# Altium integrated library WE-CBF SMD EMI Suppression Ferrite Bead.IntLib: 159 symbols (part 2 of 2)
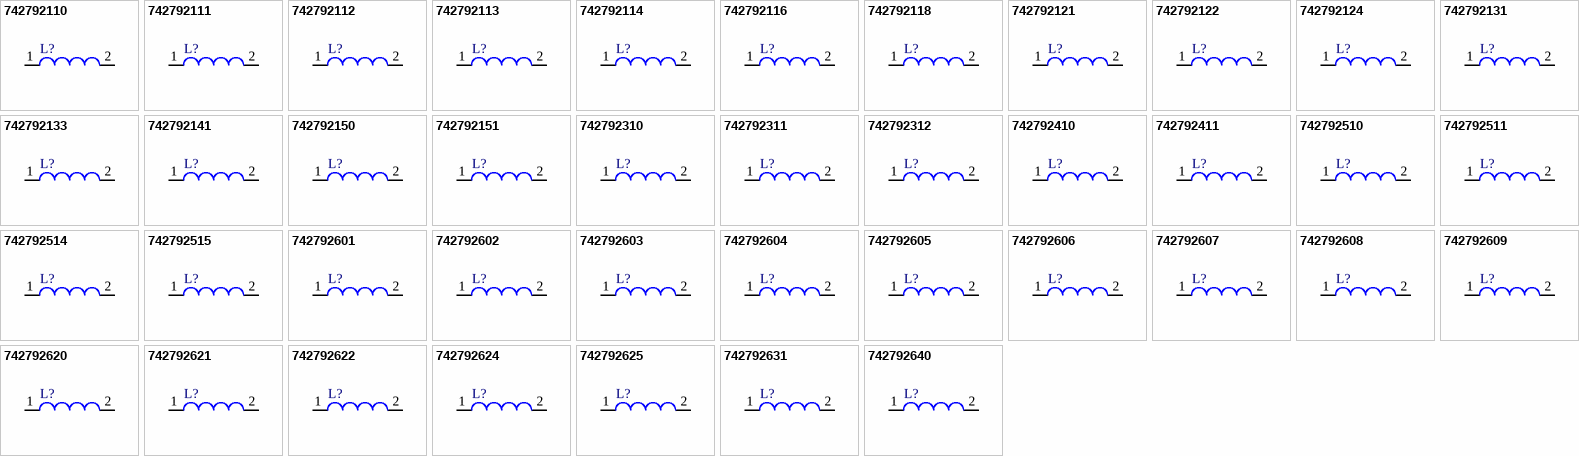
[diagram p4: symbols 742792110 to 742792640]

## 742792310
designator L?
SMD EMI Suppression Ferrite Bead WE-CBF, Z = 30 Ohm; PartNumber: 742792310; Impedance: 30 Ohm; DatasheetVersion: Nov-2007; PackageReference: SMD-1210; PackageDescription: Chip Inductor, 2-Leads, Body 3.2 x 2.5 mm; ComponentLink1Description: Manufacturer URL; ComponentLink1URL: http://www.we-online.com; ComponentLink2Description: Datasheet; ComponentLink2URL: http://www.we-online.de/katalog/media/pdf/742792310.pdf
footprint SMD-1210 (Chip Inductor, 2-Leads, Body 3.2x2.5x1.5 mm)
pins: 1, 2

## 742792311
designator L?
SMD EMI Suppression Ferrite Bead WE-CBF, Z = 52 Ohm; PartNumber: 742792311; Impedance: 52 Ohm; DatasheetVersion: Nov-2007; PackageReference: SMD-1210; PackageDescription: Chip Inductor, 2-Leads, Body 3.2 x 2.5 mm; ComponentLink1Description: Manufacturer URL; ComponentLink1URL: http://www.we-online.com; ComponentLink2Description: Datasheet; ComponentLink2URL: http://www.we-online.de/katalog/media/pdf/742792311.pdf
footprint SMD-1210 (Chip Inductor, 2-Leads, Body 3.2x2.5x1.5 mm)
pins: 1, 2

## 742792312
designator L?
SMD EMI Suppression Ferrite Bead WE-CBF, Z = 65 Ohm; PartNumber: 742792312; Impedance: 65 Ohm; DatasheetVersion: Nov-2007; PackageReference: SMD-1210; PackageDescription: Chip Inductor, 2-Leads, Body 3.2 x 2.5 mm; ComponentLink1Description: Manufacturer URL; ComponentLink1URL: http://www.we-online.com; ComponentLink2Description: Datasheet; ComponentLink2URL: http://www.we-online.de/katalog/media/pdf/742792312.pdf
footprint SMD-1210 (Chip Inductor, 2-Leads, Body 3.2x2.5x1.5 mm)
pins: 1, 2

## 742792410
designator L?
SMD EMI Suppression Ferrite Bead WE-CBF, Z = 60 Ohm; PartNumber: 742792410; Impedance: 60 Ohm; DatasheetVersion: Dec-2005; PackageReference: SMD-1806; PackageDescription: Chip Inductor, 2-Leads, Body 4.5 x 1.6 mm; ComponentLink1Description: Manufacturer URL; ComponentLink1URL: http://www.we-online.com; ComponentLink2Description: Datasheet; ComponentLink2URL: http://www.we-online.de/katalog/media/pdf/742792410.pdf
footprint SMD-1806 (Chip Inductor, 2-Leads, Body 4.5x1.6x1.8 mm)
pins: 1, 2

## 742792411
designator L?
SMD EMI Suppression Ferrite Bead WE-CBF, Z = 80 Ohm; PartNumber: 742792411; Impedance: 80 Ohm; DatasheetVersion: Dec-2005; PackageReference: SMD-1806; PackageDescription: Chip Inductor, 2-Leads, Body 4.5 x 1.6 mm; ComponentLink1Description: Manufacturer URL; ComponentLink1URL: http://www.we-online.com; ComponentLink2Description: Datasheet; ComponentLink2URL: http://www.we-online.de/katalog/media/pdf/742792411.pdf
footprint SMD-1806 (Chip Inductor, 2-Leads, Body 4.5x1.6x1.8 mm)
pins: 1, 2

## 742792510
designator L?
SMD EMI Suppression Ferrite Bead WE-CBF, Z = 70 Ohm; PartNumber: 742792510; Impedance: 70 Ohm; DatasheetVersion: Dec-2005; PackageReference: SMD-1812; PackageDescription: Chip Inductor, 2-Leads, Body 4.5 x 3.2 mm; ComponentLink1Description: Manufacturer URL; ComponentLink1URL: http://www.we-online.com; ComponentLink2Description: Datasheet; ComponentLink2URL: http://www.we-online.de/katalog/media/pdf/742792510.pdf
footprint SMD-1812 (Chip Inductor, 2-Leads, Body 4.5x3.2x1.7 mm)
pins: 1, 2

## 742792511
designator L?
SMD EMI Suppression Ferrite Bead WE-CBF, Z = 120 Ohm; PartNumber: 742792511; Impedance: 120 Ohm; DatasheetVersion: Dec-2005; PackageReference: SMD-1812; PackageDescription: Chip Inductor, 2-Leads, Body 4.5 x 3.2 mm; ComponentLink1Description: Manufacturer URL; ComponentLink1URL: http://www.we-online.com; ComponentLink2Description: Datasheet; ComponentLink2URL: http://www.we-online.de/katalog/media/pdf/742792511.pdf
footprint SMD-1812 (Chip Inductor, 2-Leads, Body 4.5x3.2x1.7 mm)
pins: 1, 2

## 742792514
designator L?
SMD EMI Suppression Ferrite Bead WE-CBF, Z = 600 Ohm; PartNumber: 742792514; Impedance: 600 Ohm; DatasheetVersion: Feb-2007; PackageReference: SMD-1812; PackageDescription: Chip Inductor, 2-Leads, Body 4.5 x 3.2 mm; ComponentLink1Description: Manufacturer URL; ComponentLink1URL: http://www.we-online.com; ComponentLink2Description: Datasheet; ComponentLink2URL: http://www.we-online.de/katalog/media/pdf/742792514.pdf
footprint SMD-1812 (Chip Inductor, 2-Leads, Body 4.5x3.2x1.7 mm)
pins: 1, 2

## 742792515
designator L?
SMD EMI Suppression Ferrite Bead WE-CBF, Z = 530 Ohm; PartNumber: 742792515; Impedance: 530 Ohm; DatasheetVersion: ver 5, Jan-2010; PackageReference: SMD-1812; PackageDescription: Chip Inductor, 2-Leads, Body 4.5 x 3.2 mm; ComponentLink1Description: Manufacturer URL; ComponentLink1URL: http://www.we-online.com; ComponentLink2Description: Datasheet; ComponentLink2URL: http://www.we-online.de/katalog/media/pdf/742792515.pdf
footprint SMD-1812 (Chip Inductor, 2-Leads, Body 4.5x3.2x1.7 mm)
pins: 1, 2

## 742792601
designator L?
SMD EMI Suppression Ferrite Bead WE-CBF, Z = 30 Ohm; PartNumber: 742792601; Impedance: 30 Ohm; DatasheetVersion: Dec-2005; PackageReference: SMD-0603; PackageDescription: Chip Inductor, 2-Leads, Body 1.6 x 0.8 mm; ComponentLink1Description: Manufacturer URL; ComponentLink1URL: http://www.we-online.com; ComponentLink2Description: Datasheet; ComponentLink2URL: http://www.we-online.de/katalog/media/pdf/742792601.pdf
footprint SMD-0603 (Chip Inductor, 2-Leads, Body 1.6x0.8x0.95 mm)
pins: 1, 2

## 742792602
designator L?
SMD EMI Suppression Ferrite Bead WE-CBF, Z = 60 Ohm; PartNumber: 742792602; Impedance: 60 Ohm; DatasheetVersion: Dec-2005; PackageReference: SMD-0603; PackageDescription: Chip Inductor, 2-Leads, Body 1.6 x 0.8 mm; ComponentLink1Description: Manufacturer URL; ComponentLink1URL: http://www.we-online.com; ComponentLink2Description: Datasheet; ComponentLink2URL: http://www.we-online.de/katalog/media/pdf/742792602.pdf
footprint SMD-0603 (Chip Inductor, 2-Leads, Body 1.6x0.8x0.95 mm)
pins: 1, 2

## 742792603
designator L?
SMD EMI Suppression Ferrite Bead WE-CBF, Z = 28 Ohm; PartNumber: 742792603; Impedance: 28 Ohm; DatasheetVersion: Dec-2005; PackageReference: SMD-0603; PackageDescription: Chip Inductor, 2-Leads, Body 1.6 x 0.8 mm; ComponentLink1Description: Manufacturer URL; ComponentLink1URL: http://www.we-online.com; ComponentLink2Description: Datasheet; ComponentLink2URL: http://www.we-online.de/katalog/media/pdf/742792603.pdf
footprint SMD-0603 (Chip Inductor, 2-Leads, Body 1.6x0.8x0.95 mm)
pins: 1, 2

## 742792604
designator L?
SMD EMI Suppression Ferrite Bead WE-CBF, Z = 22 Ohm; PartNumber: 742792604; Impedance: 22 Ohm; DatasheetVersion: ver 5, Feb-2007; PackageReference: SMD-0603; PackageDescription: Chip Inductor, 2-Leads, Body 1.6 x 0.8 mm; ComponentLink1Description: Manufacturer URL; ComponentLink1URL: http://www.we-online.com; ComponentLink2Description: Datasheet; ComponentLink2URL: http://www.we-online.de/katalog/media/pdf/742792604.pdf
footprint SMD-0603 (Chip Inductor, 2-Leads, Body 1.6x0.8x0.95 mm)
pins: 1, 2

## 742792605
designator L?
SMD EMI Suppression Ferrite Bead WE-CBF, Z = 33 Ohm; PartNumber: 742792605; Impedance: 15 Ohm; DatasheetVersion: Dec-2005; PackageReference: SMD-0603; PackageDescription: Chip Inductor, 2-Leads, Body 1.6 x 0.8 mm; ComponentLink1Description: Manufacturer URL; ComponentLink1URL: http://www.we-online.com; ComponentLink2Description: Datasheet; ComponentLink2URL: http://www.we-online.de/katalog/media/pdf/742792605.pdf
footprint SMD-0603 (Chip Inductor, 2-Leads, Body 1.6x0.8x0.95 mm)
pins: 1, 2

## 742792606
designator L?
SMD EMI Suppression Ferrite Bead WE-CBF, Z = 120 Ohm; PartNumber: 742792606; Impedance: 120 Ohm; DatasheetVersion: Dec-2005; PackageReference: SMD-0603; PackageDescription: Chip Inductor, 2-Leads, Body 1.6 x 0.8 mm; ComponentLink1Description: Manufacturer URL; ComponentLink1URL: http://www.we-online.com; ComponentLink2Description: Datasheet; ComponentLink2URL: http://www.we-online.de/katalog/media/pdf/742792606.pdf
footprint SMD-0603 (Chip Inductor, 2-Leads, Body 1.6x0.8x0.95 mm)
pins: 1, 2

## 742792607
designator L?
SMD EMI Suppression Ferrite Bead WE-CBF, Z = 68 Ohm; PartNumber: 742792607; Impedance: 68 Ohm; DatasheetVersion: Dec-2005; PackageReference: SMD-0603; PackageDescription: Chip Inductor, 2-Leads, Body 1.6 x 0.8 mm; ComponentLink1Description: Manufacturer URL; ComponentLink1URL: http://www.we-online.com; ComponentLink2Description: Datasheet; ComponentLink2URL: http://www.we-online.de/katalog/media/pdf/742792607.pdf
footprint SMD-0603 (Chip Inductor, 2-Leads, Body 1.6x0.8x0.95 mm)
pins: 1, 2

## 742792608
designator L?
SMD EMI Suppression Ferrite Bead WE-CBF, Z = 47 Ohm; PartNumber: 742792608; Impedance: 47 Ohm; DatasheetVersion: Dec-2005; PackageReference: SMD-0603; PackageDescription: Chip Inductor, 2-Leads, Body 1.6 x 0.8 mm; ComponentLink1Description: Manufacturer URL; ComponentLink1URL: http://www.we-online.com; ComponentLink2Description: Datasheet; ComponentLink2URL: http://www.we-online.de/katalog/media/pdf/742792608.pdf
footprint SMD-0603 (Chip Inductor, 2-Leads, Body 1.6x0.8x0.95 mm)
pins: 1, 2

## 742792609
designator L?
SMD EMI Suppression Ferrite Bead WE-CBF, Z = 30 Ohm; PartNumber: 742792609; Impedance: 30 Ohm; DatasheetVersion: Dec-2005; PackageReference: SMD-0603; PackageDescription: Chip Inductor, 2-Leads, Body 1.6 x 0.8 mm; ComponentLink1Description: Manufacturer URL; ComponentLink1URL: http://www.we-online.com; ComponentLink2Description: Datasheet; ComponentLink2URL: http://www.we-online.de/katalog/media/pdf/742792609.pdf
footprint SMD-0603 (Chip Inductor, 2-Leads, Body 1.6x0.8x0.95 mm)
pins: 1, 2

## 742792620
designator L?
SMD EMI Suppression Ferrite Bead WE-CBF, Z = 100 Ohm; PartNumber: 742792620; Impedance: 100 Ohm; DatasheetVersion: ver 2, Aug-2005; PackageReference: SMD-0603; PackageDescription: Chip Inductor, 2-Leads, Body 1.6 x 0.8 mm; ComponentLink1Description: Manufacturer URL; ComponentLink1URL: http://www.we-online.com; ComponentLink2Description: Datasheet; ComponentLink2URL: http://www.we-online.de/katalog/media/pdf/742792620.pdf
footprint SMD-0603 (Chip Inductor, 2-Leads, Body 1.6x0.8x0.95 mm)
pins: 1, 2

## 742792621
designator L?
SMD EMI Suppression Ferrite Bead WE-CBF, Z = 140 Ohm; PartNumber: 742792621; Impedance: 140 Ohm; DatasheetVersion: Dec-2005; PackageReference: SMD-0603; PackageDescription: Chip Inductor, 2-Leads, Body 1.6 x 0.8 mm; ComponentLink1Description: Manufacturer URL; ComponentLink1URL: http://www.we-online.com; ComponentLink2Description: Datasheet; ComponentLink2URL: http://www.we-online.de/katalog/media/pdf/742792621.pdf
footprint SMD-0603 (Chip Inductor, 2-Leads, Body 1.6x0.8x0.95 mm)
pins: 1, 2

## 742792622
designator L?
SMD EMI Suppression Ferrite Bead WE-CBF, Z = 180 Ohm; PartNumber: 742792622; Impedance: 180 Ohm; DatasheetVersion: Dec-2005; PackageReference: SMD-0603; PackageDescription: Chip Inductor, 2-Leads, Body 1.6 x 0.8 mm; ComponentLink1Description: Manufacturer URL; ComponentLink1URL: http://www.we-online.com; ComponentLink2Description: Datasheet; ComponentLink2URL: http://www.we-online.de/katalog/media/pdf/74279222.pdf
footprint SMD-0603 (Chip Inductor, 2-Leads, Body 1.6x0.8x0.95 mm)
pins: 1, 2

## 742792624
designator L?
SMD EMI Suppression Ferrite Bead WE-CBF, Z = 180 Ohm; PartNumber: 742792624; Impedance: 180 Ohm; DatasheetVersion: ver 1, Jun-2008; PackageReference: SMD-0603; PackageDescription: Chip Inductor, 2-Leads, Body 1.6 x 0.8 mm; ComponentLink1Description: Manufacturer URL; ComponentLink1URL: http://www.we-online.com; ComponentLink2Description: Datasheet; ComponentLink2URL: http://www.we-online.de/katalog/media/pdf/742792624.pdf
footprint SMD-0603 (Chip Inductor, 2-Leads, Body 1.6x0.8x0.95 mm)
pins: 1, 2

## 742792625
designator L?
SMD EMI Suppression Ferrite Bead WE-CBF, Z = 120 Ohm; PartNumber: 742792625; Impedance: 120 Ohm; DatasheetVersion: ver 1, Aug-2009; PackageReference: SMD-0603; PackageDescription: Chip Inductor, 2-Leads, Body 1.6 x 0.8 mm; ComponentLink1Description: Manufacturer URL; ComponentLink1URL: http://www.we-online.com; ComponentLink2Description: Datasheet; ComponentLink2URL: http://www.we-online.de/katalog/media/pdf/742792625.pdf
footprint SMD-0603 (Chip Inductor, 2-Leads, Body 1.6x0.8x0.95 mm)
pins: 1, 2

## 742792631
designator L?
SMD EMI Suppression Ferrite Bead WE-CBF, Z = 240 Ohm; PartNumber: 742792631; Impedance: 240 Ohm; DatasheetVersion: Dec-2005; PackageReference: SMD-0603; PackageDescription: Chip Inductor, 2-Leads, Body 1.6 x 0.8 mm; ComponentLink1Description: Manufacturer URL; ComponentLink1URL: http://www.we-online.com; ComponentLink2Description: Datasheet; ComponentLink2URL: http://www.we-online.de/katalog/media/pdf/742792631.pdf
footprint SMD-0603 (Chip Inductor, 2-Leads, Body 1.6x0.8x0.95 mm)
pins: 1, 2

## 742792640
designator L?
SMD EMI Suppression Ferrite Bead WE-CBF, Z = 300 Ohm; PartNumber: 742792640; Impedance: 300 Ohm; DatasheetVersion: Dec-2005; PackageReference: SMD-0603; PackageDescription: Chip Inductor, 2-Leads, Body 1.6 x 0.8 mm; ComponentLink1Description: Manufacturer URL; ComponentLink1URL: http://www.we-online.com; ComponentLink2Description: Datasheet; ComponentLink2URL: http://www.we-online.de/katalog/media/pdf/742792640.pdf
footprint SMD-0603 (Chip Inductor, 2-Leads, Body 1.6x0.8x0.95 mm)
pins: 1, 2

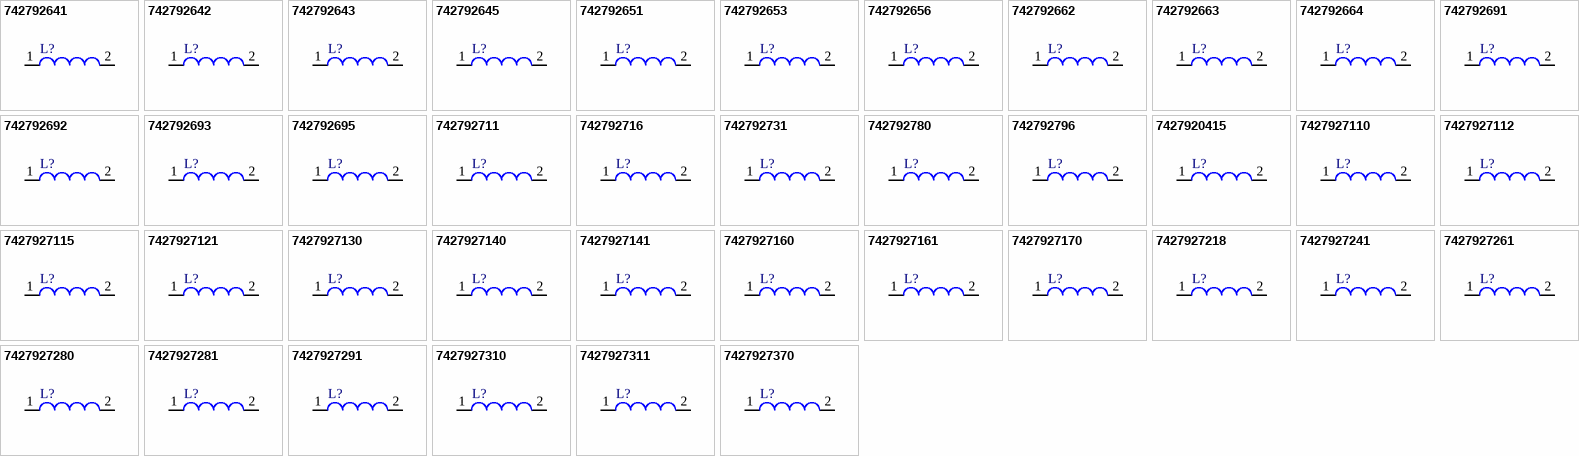
[diagram p3: symbols 742792641 to 7427927370]

## 742792641
designator L?
SMD EMI Suppression Ferrite Bead WE-CBF, Z = 300 Ohm; PartNumber: 742792641; Impedance: 300 Ohm; DatasheetVersion: Dec-2005; PackageReference: SMD-0603; PackageDescription: Chip Inductor, 2-Leads, Body 1.6 x 0.8 mm; ComponentLink1Description: Manufacturer URL; ComponentLink1URL: http://www.we-online.com; ComponentLink2Description: Datasheet; ComponentLink2URL: http://www.we-online.de/katalog/media/pdf/742792641.pdf
footprint SMD-0603 (Chip Inductor, 2-Leads, Body 1.6x0.8x0.95 mm)
pins: 1, 2

## 742792642
designator L?
SMD EMI Suppression Ferrite Bead WE-CBF, Z = 470 Ohm; PartNumber: 742792642; Impedance: 470 Ohm; DatasheetVersion: Dec-2005; PackageReference: SMD-0603; PackageDescription: Chip Inductor, 2-Leads, Body 1.6 x 0.8 mm; ComponentLink1Description: Manufacturer URL; ComponentLink1URL: http://www.we-online.com; ComponentLink2Description: Datasheet; ComponentLink2URL: http://www.we-online.de/katalog/media/pdf/742792642.pdf
footprint SMD-0603 (Chip Inductor, 2-Leads, Body 1.6x0.8x0.95 mm)
pins: 1, 2

## 742792643
designator L?
SMD EMI Suppression Ferrite Bead WE-CBF, Z = 470 Ohm; PartNumber: 742792643; Impedance: 470 Ohm; DatasheetVersion: Dec-2005; PackageReference: SMD-0603; PackageDescription: Chip Inductor, 2-Leads, Body 1.6 x 0.8 mm; ComponentLink1Description: Manufacturer URL; ComponentLink1URL: http://www.we-online.com; ComponentLink2Description: Datasheet; ComponentLink2URL: http://www.we-online.de/katalog/media/pdf/742792643.pdf
footprint SMD-0603 (Chip Inductor, 2-Leads, Body 1.6x0.8x0.95 mm)
pins: 1, 2

## 742792645
designator L?
SMD EMI Suppression Ferrite Bead WE-CBF, Z = 470 Ohm; PartNumber: 742792645; Impedance: 470 Ohm; DatasheetVersion: ver 1, Aug-2009; PackageReference: SMD-0603; PackageDescription: Chip Inductor, 2-Leads, Body 1.6 x 0.8 mm; ComponentLink1Description: Manufacturer URL; ComponentLink1URL: http://www.we-online.com; ComponentLink2Description: Datasheet; ComponentLink2URL: http://www.we-online.de/katalog/media/pdf/742792645.pdf
footprint SMD-0603 (Chip Inductor, 2-Leads, Body 1.6x0.8x0.95 mm)
pins: 1, 2

## 742792651
designator L?
SMD EMI Suppression Ferrite Bead WE-CBF, Z = 600 Ohm; PartNumber: 742792651; Impedance: 600 Ohm; DatasheetVersion: Dec-2005; PackageReference: SMD-0603; PackageDescription: Chip Inductor, 2-Leads, Body 1.6 x 0.8 mm; ComponentLink1Description: Manufacturer URL; ComponentLink1URL: http://www.we-online.com; ComponentLink2Description: Datasheet; ComponentLink2URL: http://www.we-online.de/katalog/media/pdf/742792651.pdf
footprint SMD-0603 (Chip Inductor, 2-Leads, Body 1.6x0.8x0.95 mm)
pins: 1, 2

## 742792653
designator L?
SMD EMI Suppression Ferrite Bead WE-CBF, Z = 600 Ohm; PartNumber: 742792653; Impedance: 600 Ohm; DatasheetVersion: Dec-2005; PackageReference: SMD-0603; PackageDescription: Chip Inductor, 2-Leads, Body 1.6 x 0.8 mm; ComponentLink1Description: Manufacturer URL; ComponentLink1URL: http://www.we-online.com; ComponentLink2Description: Datasheet; ComponentLink2URL: http://www.we-online.de/katalog/media/pdf/742792653.pdf
footprint SMD-0603 (Chip Inductor, 2-Leads, Body 1.6x0.8x0.95 mm)
pins: 1, 2

## 742792656
designator L?
SMD EMI Suppression Ferrite Bead WE-CBF, Z = 750 Ohm; PartNumber: 742792656; Impedance: 750 Ohm; DatasheetVersion: Dec-2005; PackageReference: SMD-0603; PackageDescription: Chip Inductor, 2-Leads, Body 1.6 x 0.8 mm; ComponentLink1Description: Manufacturer URL; ComponentLink1URL: http://www.we-online.com; ComponentLink2Description: Datasheet; ComponentLink2URL: http://www.we-online.de/katalog/media/pdf/742792656.pdf
footprint SMD-0603 (Chip Inductor, 2-Leads, Body 1.6x0.8x0.95 mm)
pins: 1, 2

## 742792662
designator L?
SMD EMI Suppression Ferrite Bead WE-CBF, Z = 1000 Ohm; PartNumber: 742792662; DatasheetVersion: ver 1, Mar-2010; PackageReference: SMD-0603; PackageDescription: Chip Inductor, 2-Leads, Body 1.6 x 0.8 mm; Impedance: 1000 Ohm; ComponentLink1Description: Manufacturer URL; ComponentLink1URL: http://www.we-online.com; ComponentLink2Description: Datasheet; ComponentLink2URL: http://www.we-online.de/katalog/media/pdf/742792662.pdf
footprint SMD-0603 (Chip Inductor, 2-Leads, Body 1.6x0.8x0.95 mm)
pins: 1, 2

## 742792663
designator L?
SMD EMI Suppression Ferrite Bead WE-CBF, Z = 1000 Ohm; PartNumber: 742792663; DatasheetVersion: Dec-2005; PackageReference: SMD-0603; PackageDescription: Chip Inductor, 2-Leads, Body 1.6 x 0.8 mm; Impedance: 1000 Ohm; ComponentLink1Description: Manufacturer URL; ComponentLink1URL: http://www.we-online.com; ComponentLink2Description: Datasheet; ComponentLink2URL: http://www.we-online.de/katalog/media/pdf/742792663.pdf
footprint SMD-0603 (Chip Inductor, 2-Leads, Body 1.6x0.8x0.95 mm)
pins: 1, 2

## 742792664
designator L?
SMD EMI Suppression Ferrite Bead WE-CBF, Z = 1000 Ohm; PartNumber: 742792664; DatasheetVersion: ver 2, Jul-2006; PackageReference: SMD-0603; PackageDescription: Chip Inductor, 2-Leads, Body 1.6 x 0.8 mm; Impedance: 1000 Ohm; ComponentLink1Description: Manufacturer URL; ComponentLink1URL: http://www.we-online.com; ComponentLink2Description: Datasheet; ComponentLink2URL: http://www.we-online.de/katalog/media/pdf/742792664.pdf
footprint SMD-0603 (Chip Inductor, 2-Leads, Body 1.6x0.8x0.95 mm)
pins: 1, 2

## 742792691
designator L?
SMD EMI Suppression Ferrite Bead WE-CBF, Z = 1500 Ohm; PartNumber: 742792691; DatasheetVersion: Dec-2005; PackageReference: SMD-0603; PackageDescription: Chip Inductor, 2-Leads, Body 1.6 x 0.8 mm; Impedance: 1500 Ohm; ComponentLink1Description: Manufacturer URL; ComponentLink1URL: http://www.we-online.com; ComponentLink2Description: Datasheet; ComponentLink2URL: http://www.we-online.de/katalog/media/pdf/742792691.pdf
footprint SMD-0603 (Chip Inductor, 2-Leads, Body 1.6x0.8x0.95 mm)
pins: 1, 2

## 742792692
designator L?
SMD EMI Suppression Ferrite Bead WE-CBF, Z = 1800 Ohm; PartNumber: 742792692; DatasheetVersion: Dec-2005; PackageReference: SMD-0603; PackageDescription: Chip Inductor, 2-Leads, Body 1.6 x 0.8 mm; Impedance: 1800 Ohm; ComponentLink1Description: Manufacturer URL; ComponentLink1URL: http://www.we-online.com; ComponentLink2Description: Datasheet; ComponentLink2URL: http://www.we-online.de/katalog/media/pdf/742792692.pdf
footprint SMD-0603 (Chip Inductor, 2-Leads, Body 1.6x0.8x0.95 mm)
pins: 1, 2

## 742792693
designator L?
SMD EMI Suppression Ferrite Bead WE-CBF, Z = 2200 Ohm; PartNumber: 742792693; DatasheetVersion: Dec-2005; PackageReference: SMD-0603; PackageDescription: Chip Inductor, 2-Leads, Body 1.6 x 0.8 mm; Impedance: 2200 Ohm; ComponentLink1Description: Manufacturer URL; ComponentLink1URL: http://www.we-online.com; ComponentLink2Description: Datasheet; ComponentLink2URL: http://www.we-online.de/katalog/media/pdf/742792693.pdf
footprint SMD-0603 (Chip Inductor, 2-Leads, Body 1.6x0.8x0.95 mm)
pins: 1, 2

## 742792695
designator L?
SMD EMI Suppression Ferrite Bead WE-CBF, Z = 2500 Ohm; PartNumber: 742792695; DatasheetVersion: ver 2, Aug-2007; PackageReference: SMD-0603; PackageDescription: Chip Inductor, 2-Leads, Body 1.6 x 0.8 mm; Impedance: 2500 Ohm; ComponentLink1Description: Manufacturer URL; ComponentLink1URL: http://www.we-online.com; ComponentLink2Description: Datasheet; ComponentLink2URL: http://www.we-online.de/katalog/media/pdf/742792695.pdf
footprint SMD-0603 (Chip Inductor, 2-Leads, Body 1.6x0.8x0.95 mm)
pins: 1, 2

## 742792711
designator L?
SMD EMI Suppression Ferrite Bead WE-CBF, Z = 100 Ohm; PartNumber: 742792711; Impedance: 100 Ohm; DatasheetVersion: ver 1, Jul-2009; PackageReference: SMD-0402; PackageDescription: Chip Inductor, 2-Leads, Body 1.0 x 0.5 mm; ComponentLink1Description: Manufacturer URL; ComponentLink1URL: http://www.we-online.com; ComponentLink2Description: Datasheet; ComponentLink2URL: http://www.we-online.de/katalog/media/pdf/742792711.pdf
footprint SMD-0402 (Chip Inductor, 2-Leads, Body 1.0x0.5x0.6 mm)
pins: 1, 2

## 742792716
designator L?
SMD EMI Suppression Ferrite Bead WE-CBF, Z = 60 Ohm; PartNumber: 742792716; Impedance: 60 Ohm; DatasheetVersion: ver 1, Jul-2009; PackageReference: SMD-0402; PackageDescription: Chip Inductor, 2-Leads, Body 1.0 x 0.5 mm; ComponentLink1Description: Manufacturer URL; ComponentLink1URL: http://www.we-online.com; ComponentLink2Description: Datasheet; ComponentLink2URL: http://www.we-online.de/katalog/media/pdf/742792716.pdf
footprint SMD-0402 (Chip Inductor, 2-Leads, Body 1.0x0.5x0.6 mm)
pins: 1, 2

## 742792731
designator L?
SMD EMI Suppression Ferrite Bead WE-CBF, Z = 100 Ohm; PartNumber: 742792731; Impedance: 100 Ohm; DatasheetVersion: ver 1, Jul-2009; PackageReference: SMD-0402; PackageDescription: Chip Inductor, 2-Leads, Body 1.0 x 0.5 mm; ComponentLink1Description: Manufacturer URL; ComponentLink1URL: http://www.we-online.com; ComponentLink2Description: Datasheet; ComponentLink2URL: http://www.we-online.de/katalog/media/pdf/742792731.pdf
footprint SMD-0402 (Chip Inductor, 2-Leads, Body 1.0x0.5x0.6 mm)
pins: 1, 2

## 742792780
designator L?
SMD EMI Suppression Ferrite Bead WE-CBF, Z = 220 Ohm; PartNumber: 742792780; Impedance: 220 Ohm; DatasheetVersion: ver 4, Jul-2009; PackageReference: SMD-0402; PackageDescription: Chip Inductor, 2-Leads, Body 1.0 x 0.5 mm; ComponentLink1Description: Manufacturer URL; ComponentLink1URL: http://www.we-online.com; ComponentLink2Description: Datasheet; ComponentLink2URL: http://www.we-online.de/katalog/media/pdf/742792780.pdf
footprint SMD-0402 (Chip Inductor, 2-Leads, Body 1.0x0.5x0.6 mm)
pins: 1, 2

## 742792796
designator L?
SMD EMI Suppression Ferrite Bead WE-CBF, Z = 1000 Ohm; PartNumber: 742792796; DatasheetVersion: ver 2, Jul-2009; PackageReference: SMD-0402; PackageDescription: Chip Inductor, 2-Leads, Body 1.0 x 0.5 mm; Impedance: 1000 Ohm; ComponentLink1Description: Manufacturer URL; ComponentLink1URL: http://www.we-online.com; ComponentLink2Description: Datasheet; ComponentLink2URL: http://www.we-online.de/katalog/media/pdf/742792796.pdf
footprint SMD-0402 (Chip Inductor, 2-Leads, Body 1.0x0.5x0.6 mm)
pins: 1, 2

## 7427920415
designator L?
SMD EMI Suppression Ferrite Bead WE-CBF, Z = 600 Ohm; PartNumber: 7427920415; Impedance: 600 Ohm; DatasheetVersion: Dec-2005; PackageReference: SMD-0805; PackageDescription: Chip Inductor, 2-Leads, Body 2.0 x 1.2 mm; ComponentLink1Description: Manufacturer URL; ComponentLink1URL: http://www.we-online.com; ComponentLink2Description: Datasheet; ComponentLink2URL: http://www.we-online.de/katalog/media/pdf/7427920415.pdf
footprint SMD-0805 (Chip Inductor, 2-Leads, Body 2.0x1.2x1.1 mm)
pins: 1, 2

## 7427927110
designator L?
SMD EMI Suppression Ferrite Bead WE-CBF, Z = 10 Ohm; PartNumber: 7427927110; Impedance: 10 Ohm; DatasheetVersion: ver 1, Jul-2009; PackageReference: SMD-0402; PackageDescription: Chip Inductor, 2-Leads, Body 1.0 x 0.5 mm; ComponentLink1Description: Manufacturer URL; ComponentLink1URL: http://www.we-online.com; ComponentLink2Description: Datasheet; ComponentLink2URL: http://www.we-online.de/katalog/media/pdf/7427927110.pdf
footprint SMD-0402 (Chip Inductor, 2-Leads, Body 1.0x0.5x0.6 mm)
pins: 1, 2

## 7427927112
designator L?
SMD EMI Suppression Ferrite Bead WE-CBF, Z = 120 Ohm; PartNumber: 7427927112; Impedance: 120 Ohm; DatasheetVersion: ver 1, Jul-2009; PackageReference: SMD-0402; PackageDescription: Chip Inductor, 2-Leads, Body 1.0 x 0.5 mm; ComponentLink1Description: Manufacturer URL; ComponentLink1URL: http://www.we-online.com; ComponentLink2Description: Datasheet; ComponentLink2URL: http://www.we-online.de/katalog/media/pdf/7427927112.pdf
footprint SMD-0402 (Chip Inductor, 2-Leads, Body 1.0x0.5x0.6 mm)
pins: 1, 2

## 7427927115
designator L?
SMD EMI Suppression Ferrite Bead WE-CBF, Z = 150 Ohm; PartNumber: 7427927115; Impedance: 150 Ohm; DatasheetVersion: ver 1, Jul-2009; PackageReference: SMD-0402; PackageDescription: Chip Inductor, 2-Leads, Body 1.0 x 0.5 mm; ComponentLink1Description: Manufacturer URL; ComponentLink1URL: http://www.we-online.com; ComponentLink2Description: Datasheet; ComponentLink2URL: http://www.we-online.de/katalog/media/pdf/7427927115.pdf
footprint SMD-0402 (Chip Inductor, 2-Leads, Body 1.0x0.5x0.6 mm)
pins: 1, 2

## 7427927121
designator L?
SMD EMI Suppression Ferrite Bead WE-CBF, Z = 220 Ohm; PartNumber: 7427927121; Impedance: 220 Ohm; DatasheetVersion: ver 1, Jul-2009; PackageReference: SMD-0402; PackageDescription: Chip Inductor, 2-Leads, Body 1.0 x 0.5 mm; ComponentLink1Description: Manufacturer URL; ComponentLink1URL: http://www.we-online.com; ComponentLink2Description: Datasheet; ComponentLink2URL: http://www.we-online.de/katalog/media/pdf/7427927121.pdf
footprint SMD-0402 (Chip Inductor, 2-Leads, Body 1.0x0.5x0.6 mm)
pins: 1, 2

## 7427927130
designator L?
SMD EMI Suppression Ferrite Bead WE-CBF, Z = 30 Ohm; PartNumber: 7427927130; Impedance: 30 Ohm; DatasheetVersion: ver 1, Jul-2009; PackageReference: SMD-0402; PackageDescription: Chip Inductor, 2-Leads, Body 1.0 x 0.5 mm; ComponentLink1Description: Manufacturer URL; ComponentLink1URL: http://www.we-online.com; ComponentLink2Description: Datasheet; ComponentLink2URL: http://www.we-online.de/katalog/media/pdf/7427927130.pdf
footprint SMD-0402 (Chip Inductor, 2-Leads, Body 1.0x0.5x0.6 mm)
pins: 1, 2

## 7427927140
designator L?
SMD EMI Suppression Ferrite Bead WE-CBF, Z = 47 Ohm; PartNumber: 7427927140; Impedance: 47 Ohm; DatasheetVersion: ver 1, Jul-2009; PackageReference: SMD-0402; PackageDescription: Chip Inductor, 2-Leads, Body 1.0 x 0.5 mm; ComponentLink1Description: Manufacturer URL; ComponentLink1URL: http://www.we-online.com; ComponentLink2Description: Datasheet; ComponentLink2URL: http://www.we-online.de/katalog/media/pdf/7427927140.pdf
footprint SMD-0402 (Chip Inductor, 2-Leads, Body 1.0x0.5x0.6 mm)
pins: 1, 2

## 7427927141
designator L?
SMD EMI Suppression Ferrite Bead WE-CBF, Z = 470 Ohm; PartNumber: 7427927141; Impedance: 470 Ohm; DatasheetVersion: ver 1, Jul-2009; PackageReference: SMD-0402; PackageDescription: Chip Inductor, 2-Leads, Body 1.0 x 0.5 mm; ComponentLink1Description: Manufacturer URL; ComponentLink1URL: http://www.we-online.com; ComponentLink2Description: Datasheet; ComponentLink2URL: http://www.we-online.de/katalog/media/pdf/7427927141.pdf
footprint SMD-0402 (Chip Inductor, 2-Leads, Body 1.0x0.5x0.6 mm)
pins: 1, 2

## 7427927160
designator L?
SMD EMI Suppression Ferrite Bead WE-CBF, Z = 60 Ohm; PartNumber: 7427927160; Impedance: 60 Ohm; DatasheetVersion: ver 1, Jul-2009; PackageReference: SMD-0402; PackageDescription: Chip Inductor, 2-Leads, Body 1.0 x 0.5 mm; ComponentLink1Description: Manufacturer URL; ComponentLink1URL: http://www.we-online.com; ComponentLink2Description: Datasheet; ComponentLink2URL: http://www.we-online.de/katalog/media/pdf/7427927160.pdf
footprint SMD-0402 (Chip Inductor, 2-Leads, Body 1.0x0.5x0.6 mm)
pins: 1, 2

## 7427927161
designator L?
SMD EMI Suppression Ferrite Bead WE-CBF, Z = 600 Ohm; PartNumber: 7427927161; Impedance: 600 Ohm; DatasheetVersion: ver 1, Jul-2009; PackageReference: SMD-0402; PackageDescription: Chip Inductor, 2-Leads, Body 1.0 x 0.5 mm; ComponentLink1Description: Manufacturer URL; ComponentLink1URL: http://www.we-online.com; ComponentLink2Description: Datasheet; ComponentLink2URL: http://www.we-online.de/katalog/media/pdf/7427927161.pdf
footprint SMD-0402 (Chip Inductor, 2-Leads, Body 1.0x0.5x0.6 mm)
pins: 1, 2

## 7427927170
designator L?
SMD EMI Suppression Ferrite Bead WE-CBF, Z = 75 Ohm; PartNumber: 7427927170; Impedance: 75 Ohm; DatasheetVersion: ver 1, Jul-2009; PackageReference: SMD-0402; PackageDescription: Chip Inductor, 2-Leads, Body 1.0 x 0.5 mm; ComponentLink1Description: Manufacturer URL; ComponentLink1URL: http://www.we-online.com; ComponentLink2Description: Datasheet; ComponentLink2URL: http://www.we-online.de/katalog/media/pdf/7427927170.pdf
footprint SMD-0402 (Chip Inductor, 2-Leads, Body 1.0x0.5x0.6 mm)
pins: 1, 2

## 7427927218
designator L?
SMD EMI Suppression Ferrite Bead WE-CBF, Z = 180 Ohm; PartNumber: 7427927218; Impedance: 180 Ohm; DatasheetVersion: ver 1, Jul-2009; PackageReference: SMD-0402; PackageDescription: Chip Inductor, 2-Leads, Body 1.0 x 0.5 mm; ComponentLink1Description: Manufacturer URL; ComponentLink1URL: http://www.we-online.com; ComponentLink2Description: Datasheet; ComponentLink2URL: http://www.we-online.de/katalog/media/pdf/7427927218.pdf
footprint SMD-0402 (Chip Inductor, 2-Leads, Body 1.0x0.5x0.6 mm)
pins: 1, 2

## 7427927241
designator L?
SMD EMI Suppression Ferrite Bead WE-CBF, Z = 470 Ohm; PartNumber: 7427927241; Impedance: 470 Ohm; DatasheetVersion: ver 1, Jul-2009; PackageReference: SMD-0402; PackageDescription: Chip Inductor, 2-Leads, Body 1.0 x 0.5 mm; ComponentLink1Description: Manufacturer URL; ComponentLink1URL: http://www.we-online.com; ComponentLink2Description: Datasheet; ComponentLink2URL: http://www.we-online.de/katalog/media/pdf/7427927241.pdf
footprint SMD-0402 (Chip Inductor, 2-Leads, Body 1.0x0.5x0.6 mm)
pins: 1, 2

## 7427927261
designator L?
SMD EMI Suppression Ferrite Bead WE-CBF, Z = 600 Ohm; PartNumber: 7427927261; Impedance: 600 Ohm; DatasheetVersion: ver 1, Jul-2009; PackageReference: SMD-0402; PackageDescription: Chip Inductor, 2-Leads, Body 1.0 x 0.5 mm; ComponentLink1Description: Manufacturer URL; ComponentLink1URL: http://www.we-online.com; ComponentLink2Description: Datasheet; ComponentLink2URL: http://www.we-online.de/katalog/media/pdf/7427927261.pdf
footprint SMD-0402 (Chip Inductor, 2-Leads, Body 1.0x0.5x0.6 mm)
pins: 1, 2

## 7427927280
designator L?
SMD EMI Suppression Ferrite Bead WE-CBF, Z = 80 Ohm; PartNumber: 7427927280; Impedance: 80 Ohm; DatasheetVersion: ver 1, Jul-2009; PackageReference: SMD-0402; PackageDescription: Chip Inductor, 2-Leads, Body 1.0 x 0.5 mm; ComponentLink1Description: Manufacturer URL; ComponentLink1URL: http://www.we-online.com; ComponentLink2Description: Datasheet; ComponentLink2URL: http://www.we-online.de/katalog/media/pdf/7427927280.pdf
footprint SMD-0402 (Chip Inductor, 2-Leads, Body 1.0x0.5x0.6 mm)
pins: 1, 2

## 7427927281
designator L?
SMD EMI Suppression Ferrite Bead WE-CBF, Z = 800 Ohm; PartNumber: 7427927281; Impedance: 800 Ohm; DatasheetVersion: ver 1, Jul-2009; PackageReference: SMD-0402; PackageDescription: Chip Inductor, 2-Leads, Body 1.0 x 0.5 mm; ComponentLink1Description: Manufacturer URL; ComponentLink1URL: http://www.we-online.com; ComponentLink2Description: Datasheet; ComponentLink2URL: http://www.we-online.de/katalog/media/pdf/7427927281.pdf
footprint SMD-0402 (Chip Inductor, 2-Leads, Body 1.0x0.5x0.6 mm)
pins: 1, 2

## 7427927291
designator L?
SMD EMI Suppression Ferrite Bead WE-CBF, Z = 600 Ohm; PartNumber: 7427927291; Impedance: 600 Ohm; DatasheetVersion: ver 1, Jul-2009; PackageReference: SMD-0402; PackageDescription: Chip Inductor, 2-Leads, Body 1.0 x 0.5 mm; ComponentLink1Description: Manufacturer URL; ComponentLink1URL: http://www.we-online.com; ComponentLink2Description: Datasheet; ComponentLink2URL: http://www.we-online.de/katalog/media/pdf/7427927291.pdf
footprint SMD-0402 (Chip Inductor, 2-Leads, Body 1.0x0.5x0.6 mm)
pins: 1, 2

## 7427927310
designator L?
SMD EMI Suppression Ferrite Bead WE-CBF, Z = 10 Ohm; PartNumber: 7427927310; Impedance: 10 Ohm; DatasheetVersion: ver 1, Jul-2009; PackageReference: SMD-0402; PackageDescription: Chip Inductor, 2-Leads, Body 1.0 x 0.5 mm; ComponentLink1Description: Manufacturer URL; ComponentLink1URL: http://www.we-online.com; ComponentLink2Description: Datasheet; ComponentLink2URL: http://www.we-online.de/katalog/media/pdf/7427927310.pdf
footprint SMD-0402 (Chip Inductor, 2-Leads, Body 1.0x0.5x0.6 mm)
pins: 1, 2

## 7427927311
designator L?
SMD EMI Suppression Ferrite Bead WE-CBF, Z = 120 Ohm; PartNumber: 7427927311; Impedance: 120 Ohm; DatasheetVersion: ver 1, Jul-2009; PackageReference: SMD-0402; PackageDescription: Chip Inductor, 2-Leads, Body 1.0 x 0.5 mm; ComponentLink1Description: Manufacturer URL; ComponentLink1URL: http://www.we-online.com; ComponentLink2Description: Datasheet; ComponentLink2URL: http://www.we-online.de/katalog/media/pdf/74279273120.pdf
footprint SMD-0402 (Chip Inductor, 2-Leads, Body 1.0x0.5x0.6 mm)
pins: 1, 2

## 7427927370
designator L?
SMD EMI Suppression Ferrite Bead WE-CBF, Z = 70 Ohm; PartNumber: 7427927370; Impedance: 70 Ohm; DatasheetVersion: ver 1, Jul-2009; PackageReference: SMD-0402; PackageDescription: Chip Inductor, 2-Leads, Body 1.0 x 0.5 mm; ComponentLink1Description: Manufacturer URL; ComponentLink1URL: http://www.we-online.com; ComponentLink2Description: Datasheet; ComponentLink2URL: http://www.we-online.de/katalog/media/pdf/7427927370.pdf
footprint SMD-0402 (Chip Inductor, 2-Leads, Body 1.0x0.5x0.6 mm)
pins: 1, 2